# Altium schematic symbol library Passive.SchLib: 3 symbols
Pins are listed as number, name and electrical type; pins without a type are passive.

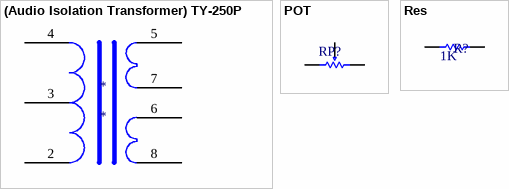
[diagram p0: symbols (Audio Isolation Transformer) TY-250P to Res]

## (Audio Isolation Transformer) TY-250P
designator *
footprint TY-250P
pins: 2, 3, 4, 5, 6, 7, 8

## POT
designator RP?, comment Resistor  (value not drawn)
footprint POT-Inline
pins: 1, 2, 3
1 alternate drawing of the same symbol

## Res
designator R?  value 1K
Resistor; Published: 8-Jun-2000; LatestRevisionDate: 17-Jul-2002; LatestRevisionNote: Re-released for DXP Platform.; PackageReference: AXIAL-0.3; Publisher: Altium Limited; PackageDescription: Axial Device, Thru-Hole; 2 Leads; 0.3 in Pin Spacing
footprint AXIAL-0.3 (Axial Device, Thru-Hole; 2 Leads; 0.3 in Pin Spacing)
simulation model RESISTOR (Resistor)
signal-integrity model Res
footprint 0805 MMC
pins: 1, 2